# Altium footprint library 691 250 610 0xx.PcbLib: 2 footprints
Each footprint in its own frame and in the unit in brackets; x right, y up, seen from the top. Pads: shape width x height; smd on the part's side, far side on the other; paste and mask are expansions set on the pad; w line width, h text height; cw(c..) or ccw(c..) is an arc to the next point about the centre after c.
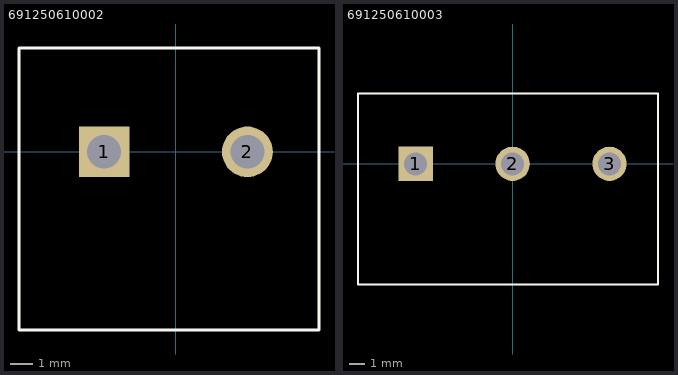
[diagram p0: the footprints below, top view; thin cyan lines are the x and y axes]

## 691250610002 [mm] "Serie 2506 - 6.35 mm _ 2 pins"
height 21.5
pads (2):
  rect 2.25x2.25 hole 1.5: 1(-3.175,0)
  round 2.25 hole 1.5: 2(3.175,0)
Top Overlay:
  lines w0.127: -6.95,-7.9 -6.95,4.6 6.35,4.6 6.35,-7.9 -6.95,-7.9
3D body: height 21.6, standoff -4.9, extent -6.95,-7.9 6.35,4.6

## 691250610003 [mm] "Serie 2506 - 6.35 mm _ 3 pins"
height 21.5
pads (3):
  rect 2.25x2.25 hole 1.5: 1(-6.35,0)
  round 2.25 hole 1.5: 2(0,0) 3(6.35,0)
Top Overlay:
  lines w0.127: -10.125,-7.9 9.525,-7.9 9.525,4.6 -10.125,4.6 -10.125,-7.9
3D body: height 21.6, standoff -4.9, extent -10.125,-7.9 9.525,4.6